# Altium footprint library DT3.PcbLib: 1 footprints
Each footprint in its own frame and in the unit in brackets; x right, y up, seen from the top. Pads: shape width x height; smd on the part's side, far side on the other; paste and mask are expansions set on the pad; w line width, h text height; cw(c..) or ccw(c..) is an arc to the next point about the centre after c.
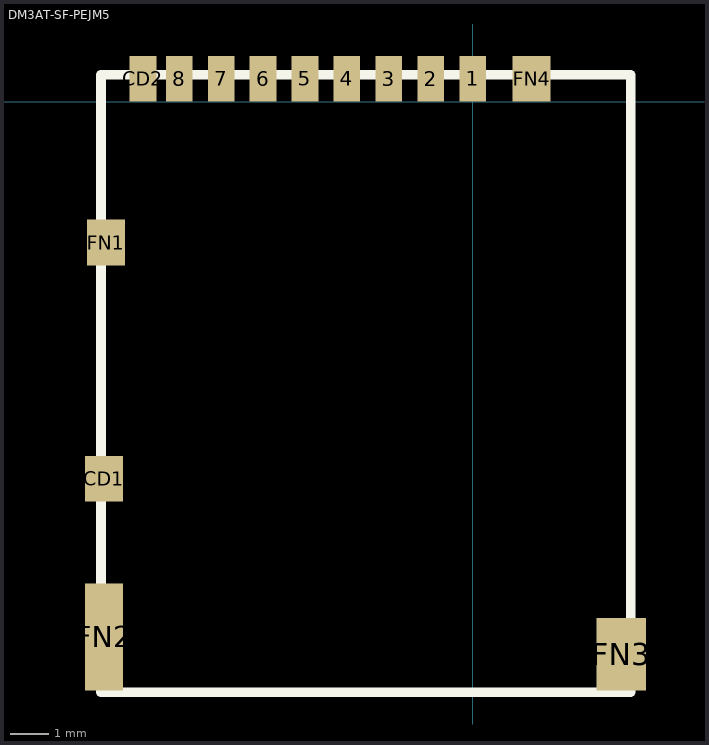
[diagram p0: the footprint, top view; thin cyan lines are the x and y axes]

## DM3AT-SF-PEJM5 [mm] "Hirose SD Card Connector DM3AT-SF-PEJM5"
pads (14):
  rect 0.7x1.2 smd: 1(0,0.6) 2(-1.1,0.6) 3(-2.2,0.6) 4(-3.3,0.6) 5(-4.4,0.6) 6(-5.5,0.6) 7(-6.6,0.6) 8(-7.7,0.6) CD2(-8.65,0.6)
  rect 1x1.2 smd: CD1(-9.675,-9.9) FN1(-9.625,-3.7) FN4(1.55,0.6)
  rect 1x2.8 smd: FN2(-9.675,-14.05)
  rect 1.3x1.9 smd: FN3(3.9,-14.5)
Top Overlay:
  lines w0.254: -9.75,-15.5 4.15,-15.5 4.15,0.7 -9.75,0.7 -9.75,-15.5
3D body "DM3AT-SF-PEJM5.stp": height 1.68, standoff 0, extent -9.7,-15.475 4.15,0.675